# EAGLE library part LT1078 (library firefly)
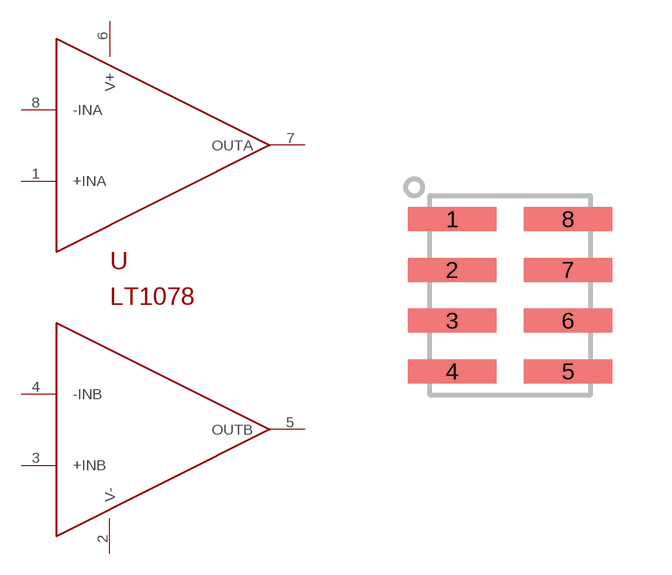
[diagram p26: symbol with the pads of SOIC8; footprint SOIC8]

Designator prefix -

## LT1078  [SOIC8]
1  +INA
2  V-
3  +INB
4  -INB
5  OUTB
6  V+
7  OUTA
8  -INA

## Footprint SOIC8 (pad centres in mm)
smd 2.2 x 0.6: 1 -1.45,1.905; 2 -1.45,0.635; 3 -1.45,-0.635; 4 -1.45,-1.905; 5 1.45,-1.905; 6 1.45,-0.635; 7 1.45,0.635; 8 1.45,1.905